# EAGLE library part R-EU_ARRAY-8X (library df4iah_rcl)
Resistor-Array 8x European symbol
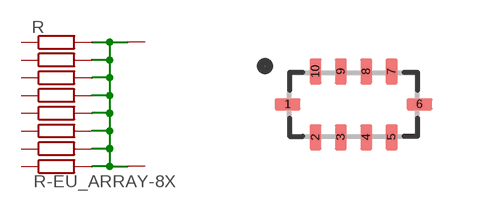
[diagram p0: symbol with the pads of EXBD; footprint EXBD]

Designator prefix R

## R-EU_ARRAY-8X  [EXBD]
1  1  pas
2  2  pas
3  3  pas
4  4  pas
5  5  pas
6  6  pas
7  7  pas
8  8  pas
9  9  pas
10  10  pas

## Footprint EXBD (pad centres in mm)
EXBD Resistor Array 8xR to Com Body: 1.60 mm x 0.80 mm Pitch: 0.635 mm
smd 0.65 x 0.3: 1 -1.65,0; 6 1.65,0
smd 0.3 x 0.65: 2 -0.953,-0.825; 3 -0.318,-0.825; 4 0.318,-0.825; 5 0.953,-0.825; 7 0.953,0.825; 8 0.318,0.825; 9 -0.318,0.825; 10 -0.953,0.825